# EAGLE library part TIWI-BLE (library everykey)
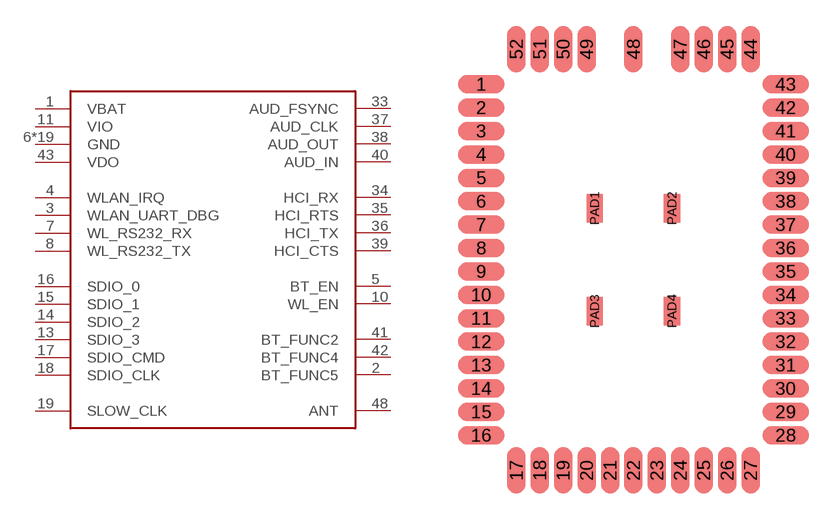
[diagram p15: symbol with the pads of TIWI-BLE; footprint TIWI-BLE]

Designator prefix -

## TIWI-BLETIWI-BLE  [TIWI-BLE]
1  VBAT  pwr
2  BT_FUNC5
3  WLAN_UART_DBG
4  WLAN_IRQ
5  BT_EN
6  GND  pwr
7  WL_RS232_RX
8  WL_RS232_TX
10  WL_EN
11  VIO  pwr
12  GND  pwr
13  SDIO_3
14  SDIO_2
15  SDIO_1
16  SDIO_0
17  SDIO_CMD
18  SDIO_CLK
19  SLOW_CLK  in
24  GND  pwr
26  GND  pwr
27  GND  pwr
29  GND  pwr
30  GND  pwr
33  AUD_FSYNC
34  HCI_RX
35  HCI_RTS
36  HCI_TX
37  AUD_CLK
38  AUD_OUT
39  HCI_CTS
40  AUD_IN
41  BT_FUNC2
42  BT_FUNC4
43  VDO  pwr
44  GND  pwr
45  GND  pwr
46  GND  pwr
47  GND  pwr
48  ANT  pwr
49  GND  pwr
50  GND  pwr
51  GND  pwr
52  GND  pwr
PAD1  GND  pwr
PAD2  GND  pwr
PAD3  GND  pwr
PAD4  GND  pwr

## Footprint TIWI-BLE (pad centres in mm)
smd 2 x 0.8: 1 -6.5,7.5; 2 -6.5,6.5; 3 -6.5,5.5; 4 -6.5,4.5; 5 -6.5,3.5; 6 -6.5,2.5; 7 -6.5,1.5; 8 -6.5,0.5; 9 -6.5,-0.5; 10 -6.5,-1.5; 11 -6.5,-2.5; 12 -6.5,-3.5; 13 -6.5,-4.5; 14 -6.5,-5.5; 15 -6.5,-6.5; 16 -6.5,-7.5; 28 6.5,-7.5; 29 6.5,-6.5; 30 6.5,-5.5; 31 6.5,-4.5; 32 6.5,-3.5; 33 6.5,-2.5; 34 6.5,-1.5; 35 6.5,-0.5; 36 6.5,0.5; 37 6.5,1.5; 38 6.5,2.5; 39 6.5,3.5; 40 6.5,4.5; 41 6.5,5.5; 42 6.5,6.5; 43 6.5,7.5
smd 0.8 x 2: 17 -5,-9; 18 -4,-9; 19 -3,-9; 20 -2,-9; 21 -1,-9; 22 0,-9; 23 1,-9; 24 2,-9; 25 3,-9; 26 4,-9; 27 5,-9; 44 5,9; 45 4,9; 46 3,9; 47 2,9; 48 0,9; 49 -2,9; 50 -3,9; 51 -4,9; 52 -5,9
smd 0.7 x 1.2: PAD1 -1.65,2.2; PAD2 1.65,2.2; PAD3 -1.65,-2.2; PAD4 1.65,-2.2